# Altium schematic symbol library Memory_RAM.SchLib: 45 symbols
Pins are listed as number, name and electrical type; pins without a type are passive.

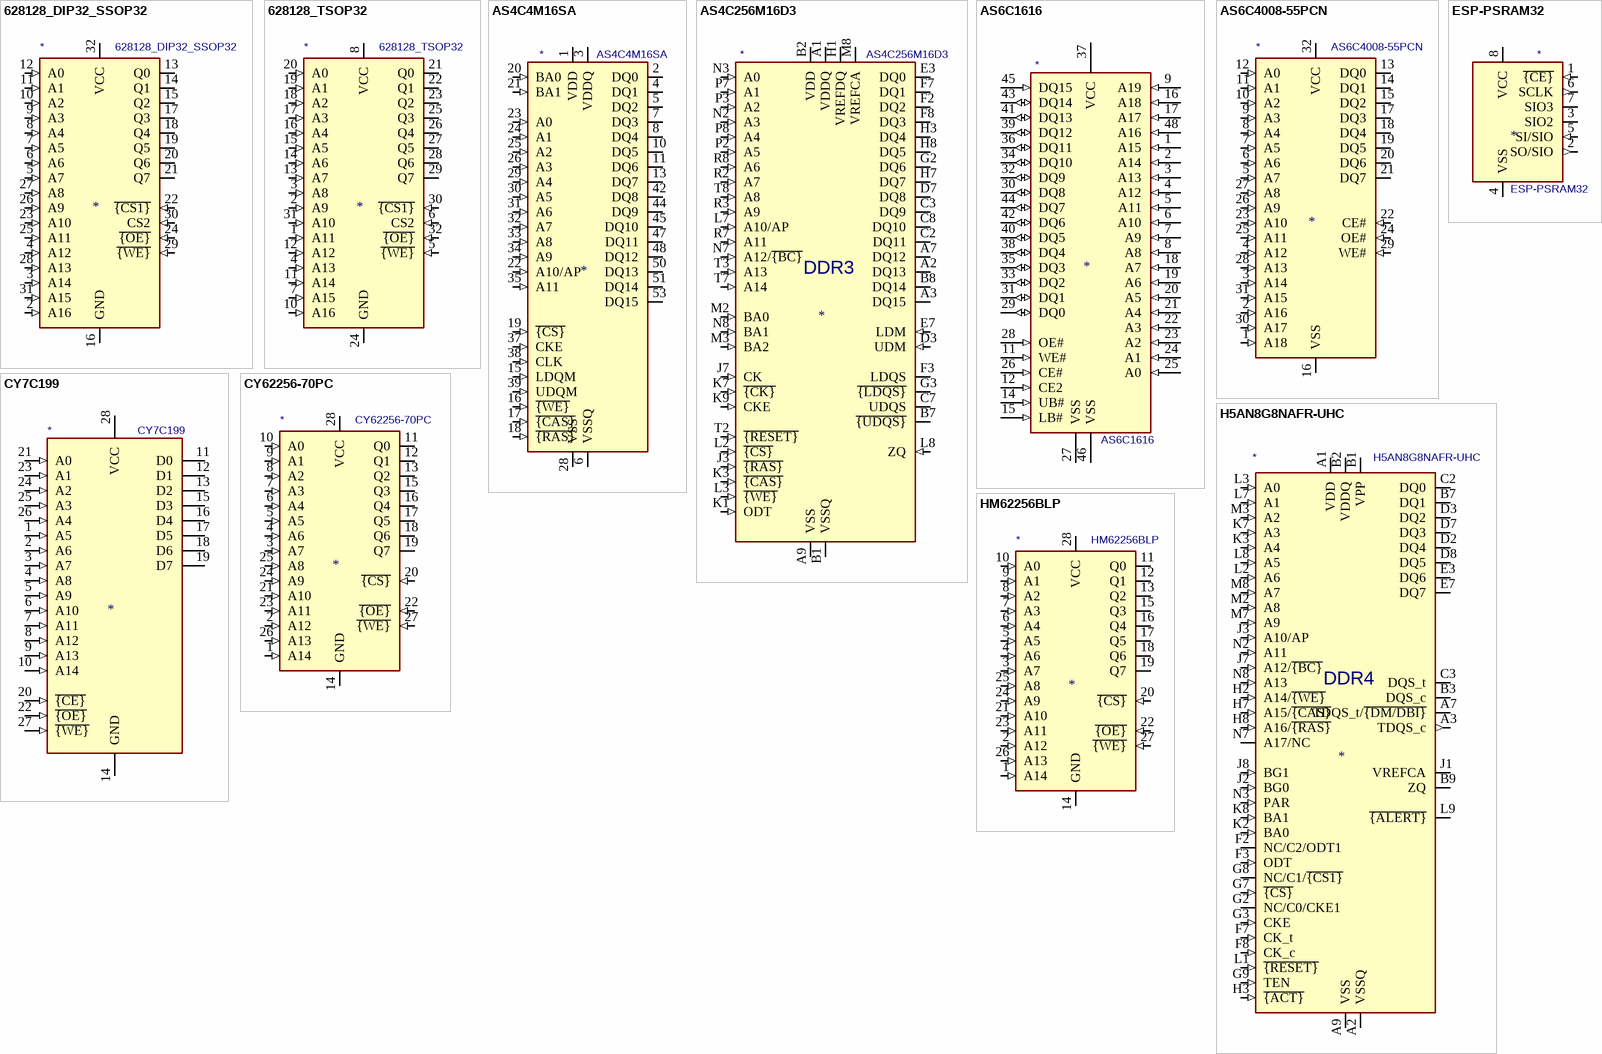
[diagram p0: symbols 628128_DIP32_SSOP32 to HM62256BLP]

## 628128_DIP32_SSOP32
designator *  value 628128_DIP32_SSOP32
ki_keywords: RAM SRAM CMOS MEMORY; ki_description: 128K x 8 High-Speed CMOS Static RAM, 55/70ns, DIP-32/SSOP-32; ki_fp_filters: DIP*W15.24mm* SSOP*11.305x20.495mm*P1.27mm*; Supplier: http://www.futurlec.com/Datasheet/Memory/628128.pdf
pins: 1 NC (in) hidden, 2 A16 (in), 3 A14 (in), 4 A12 (in), 5 A7 (in), 6 A6 (in), 7 A5 (in), 8 A4 (in), 9 A3 (in), 10 A2 (in), 11 A1 (in), 12 A0 (in), 13 Q0 (hiz), 14 Q1 (hiz), 15 Q2 (hiz), 16 GND (power), 17 Q3 (hiz), 18 Q4 (hiz), 19 Q5 (hiz), 20 Q6 (hiz), 21 Q7 (hiz), 22 ~{{CS1}} (in), 23 A10 (in), 24 ~{{OE}} (in), 25 A11 (in), 26 A9 (in), 27 A8 (in), 28 A13 (in), 29 ~{{WE}} (in), 30 CS2 (in), 31 A15 (in), 32 VCC (power)

## 628128_TSOP32
designator *  value 628128_TSOP32
ki_keywords: RAM SRAM CMOS MEMORY; ki_description: 128K x 8 High-Speed CMOS Static RAM, 55/70ns, TSOP-I-32; ki_fp_filters: TSOP?I*11.8x8mm*P0.5mm* TSOP?I*18.4x8mm*P0.5mm*; Supplier: http://www.futurlec.com/Datasheet/Memory/628128.pdf
pins: 1 A11 (in), 2 A9 (in), 3 A8 (in), 4 A13 (in), 5 ~{{WE}} (in), 6 CS2 (in), 7 A15 (in), 8 VCC (power), 9 NC (in) hidden, 10 A16 (in), 11 A14 (in), 12 A12 (in), 13 A7 (in), 14 A6 (in), 15 A5 (in), 16 A4 (in), 17 A3 (in), 18 A2 (in), 19 A1 (in), 20 A0 (in), 21 Q0 (hiz), 22 Q1 (hiz), 23 Q2 (hiz), 24 GND (power), 25 Q3 (hiz), 26 Q4 (hiz), 27 Q5 (hiz), 28 Q6 (hiz), 29 Q7 (hiz), 30 ~{{CS1}} (in), 31 A10 (in), 32 ~{{OE}} (in)

## AS4C4M16SA
designator *  value AS4C4M16SA
ki_keywords: SDRAM Synchronous DRAM PC166 PC143 64Mb 16Mbx4 MEMORY; ki_description: 64M – (4M x 16 bit) Synchronous DRAM (SDRAM), TSOP-II-54; ki_fp_filters: TSOP?II*22.2x10.16mm*P0.8mm*; Footprint: Package_SO:TSOP-II-54_22.2x10.16mm_P0.8mm; Supplier: https://www.alliancememory.com/wp-content/uploads/pdf/dram/64M-AS4C4M16SA-CI_v3.0_March%202015.pdf
footprint TSOP-II-54_22.2x10.16mm_P0.8mm
pins: 1 VDD (power), 2 DQ0 (io), 3 VDDQ (power), 4 DQ1 (io), 5 DQ2 (io), 6 VSSQ (power), 7 DQ3 (io), 8 DQ4 (io), 9 VDDQ hidden, 10 DQ5 (io), 11 DQ6 (io), 12 VSSQ hidden, 13 DQ7 (io), 14 VDD hidden, 15 LDQM (in), 16 ~{{WE}} (in), 17 ~{{CAS}} (in), 18 ~{{RAS}} (in), 19 ~{{CS}} (in), 20 BA0 (in), 21 BA1 (in), 22 A10/AP (in), 23 A0 (in), 24 A1 (in), 25 A2 (in), 26 A3 (in), 27 VDD hidden, 28 VSS (power), 29 A4 (in), 30 A5 (in), 31 A6 (in), 32 A7 (in), 33 A8 (in), 34 A9 (in), 35 A11 (in), 36 NC (in) hidden, 37 CKE (in), 38 CLK (in), 39 UDQM (in), 40 NC/RFU (in) hidden, 41 VSS hidden, 42 DQ8 (io), 43 VDDQ hidden, 44 DQ9 (io), 45 DQ10 (io), 46 VSSQ hidden, 47 DQ11 (io), 48 DQ12 (io), 49 VDDQ hidden, 50 DQ13 (io), 51 DQ14 (io), 52 VSSQ hidden, 53 DQ15 (io), 54 VSS hidden

## AS4C256M16D3
designator *  value AS4C256M16D3
ki_keywords: DDR3 DRAM MEMORY; ki_description: 4Gb (256Mx16 bit) Double Data Rate 3 Synchronous DRAM; ki_fp_filters: BGA*9.0x13.0mm*P0.8mm*; Footprint: Package_BGA:BGA-96_9.0x13.0mm_Layout2x3x16_P0.8mm; Supplier: https://www.alliancememory.com/wp-content/uploads/pdf/ddr3/4GB-AS4C256M16D3.pdf
footprint BGA-96_9.0x13.0mm_Layout2x3x16_P0.8mm
pins: A1 VDDQ (power), A2 DQ13 (io), A3 DQ15 (io), A7 DQ12 (io), A8 VDDQ hidden, A9 VSS (power), B1 VSSQ (power), B2 VDD (power), B3 VSS hidden, B7 ~{{UDQS}} (io), B8 DQ14 (io), B9 VSSQ hidden, C1 VDDQ hidden, C2 DQ11 (io), C3 DQ9 (io), C7 UDQS (io), C8 DQ10 (io), C9 VDDQ hidden, D1 VSSQ hidden, D2 VDDQ hidden, D3 UDM (in), D7 DQ8 (io), D8 VSSQ hidden, D9 VDD hidden, E1 VSS hidden, E2 VSSQ hidden, E3 DQ0 (io), E7 LDM (in), E8 VSSQ hidden, E9 VDDQ hidden, F1 VDDQ hidden, F2 DQ2 (io), F3 LDQS (io), F7 DQ1 (io), F8 DQ3 (io), F9 VSSQ hidden, G1 VSSQ hidden, G2 DQ6 (io), G3 ~{{LDQS}} (io), G7 VDD hidden, G8 VSS hidden, G9 VSSQ hidden, H1 VREFDQ (power), H2 VDDQ hidden, H3 DQ4 (io), H7 DQ7 (io), H8 DQ5 (io), H9 VDDQ hidden, J1 NC (in) hidden, J2 VSS hidden, J3 ~{{RAS}} (in), J7 CK (in), J8 VSS hidden, J9 NC (in) hidden, K1 ODT (in), K2 VDD hidden, K3 ~{{CAS}} (in), K7 ~{{CK}} (in), K8 VDD hidden, K9 CKE (in), L1 NC (in) hidden, L2 ~{{CS}} (in), L3 ~{{WE}} (in), L7 A10/AP (in), L8 ZQ (in), L9 NC (in) hidden, M1 VSS hidden, M2 BA0 (in), M3 BA2 (in), M7 NC (in) hidden, M8 VREFCA (power), M9 VSS hidden, N1 VDD hidden, N2 A3 (in), N3 A0 (in), N7 A12/~{{BC}} (in), N8 BA1 (in), N9 VDD hidden, P1 VSS hidden, P2 A5 (in), P3 A2 (in), P7 A1 (in), P8 A4 (in), P9 VSS hidden, R1 VDD hidden, R2 A7 (in), R3 A9 (in), R7 A11 (in), R8 A6 (in), R9 VDD hidden, T1 VSS hidden, T2 ~{{RESET}} (in), T3 A13 (in), T7 A14 (in), T8 A8 (in), T9 VSS hidden
text: DDR3

## AS6C1616
designator *  value AS6C1616
ki_keywords: memory SRAM; ki_description: 1024k x 16 bit low power CMOS SRAM; ki_fp_filters: TSOP?I*18.4x12mm*P0.5mm*; Footprint: Package_SO:TSOP-I-48_18.4x12mm_P0.5mm; Supplier: https://www.alliancememory.com/wp-content/uploads/pdf/AS6C1616-TSOPI.pdf
footprint TSOP-I-48_18.4x12mm_P0.5mm
pins: 1 A15 (in), 2 A14 (in), 3 A13 (in), 4 A12 (in), 5 A11 (in), 6 A10 (in), 7 A9 (in), 8 A8 (in), 9 A19 (in), 10 NC (in) hidden, 11 WE# (in), 12 CE2 (in), 13 NC (in) hidden, 14 UB# (in), 15 LB# (in), 16 A18 (in), 17 A17 (in), 18 A7 (in), 19 A6 (in), 20 A5 (in), 21 A4 (in), 22 A3 (in), 23 A2 (in), 24 A1 (in), 25 A0 (in), 26 CE# (in), 27 VSS (power), 28 OE# (in), 29 DQ0 (io), 30 DQ8 (io), 31 DQ1 (io), 32 DQ9 (io), 33 DQ2 (io), 34 DQ10 (io), 35 DQ3 (io), 36 DQ11 (io), 37 VCC (power), 38 DQ4 (io), 39 DQ12 (io), 40 DQ5 (io), 41 DQ13 (io), 42 DQ6 (io), 43 DQ14 (io), 44 DQ7 (io), 45 DQ15 (in), 46 VSS (power), 47 NC (in) hidden, 48 A16 (in)

## AS6C4008-55PCN
designator *  value AS6C4008-55PCN
ki_keywords: RAM SRAM CMOS MEMORY; ki_description: 512K x 8 Low Power CMOS RAM, DIP-32; ki_fp_filters: DIP*W15.24mm*; Footprint: Package_DIP:DIP-32_W15.24mm; Supplier: https://www.alliancememory.com/wp-content/uploads/pdf/AS6C4008.pdf
footprint DIP-32_W15.24mm
pins: 1 A18 (in), 2 A16 (in), 3 A14 (in), 4 A12 (in), 5 A7 (in), 6 A6 (in), 7 A5 (in), 8 A4 (in), 9 A3 (in), 10 A2 (in), 11 A1 (in), 12 A0 (in), 13 DQ0 (hiz), 14 DQ1 (hiz), 15 DQ2 (hiz), 16 VSS (power), 17 DQ3 (hiz), 18 DQ4 (hiz), 19 DQ5 (hiz), 20 DQ6 (hiz), 21 DQ7 (hiz), 22 CE# (in), 23 A10 (in), 24 OE# (in), 25 A11 (in), 26 A9 (in), 27 A8 (in), 28 A13 (in), 29 WE# (in), 30 A17 (in), 31 A15 (in), 32 VCC (power)

## CY7C199
designator *  value CY7C199
pins: 1 A5 (in), 2 A6 (in), 3 A7 (in), 4 A8 (in), 5 A9 (in), 6 A10 (in), 7 A11 (in), 8 A12 (in), 9 A13 (in), 10 A14 (in), 11 D0 (hiz), 12 D1 (hiz), 13 D2 (hiz), 14 GND (power), 15 D3 (hiz), 16 D4 (hiz), 17 D5 (hiz), 18 D6 (hiz), 19 D7 (hiz), 20 ~{{CE}} (in), 21 A0 (in), 22 ~{{OE}} (in), 23 A1 (in), 24 A2 (in), 25 A3 (in), 26 A4 (in), 27 ~{{WE}} (in), 28 VCC (power)

## CY62256-70PC
designator *  value CY62256-70PC
ki_keywords: RAM SRAM CMOS MEMORY; ki_description: 256K (32K x 8) Static RAM, 70ns, DIP-28; ki_fp_filters: DIP*W15.24mm*; Footprint: Package_DIP:DIP-28_W15.24mm; Supplier: https://ecee.colorado.edu/~mcclurel/Cypress_SRAM_CY62256.pdf
footprint DIP-28_W15.24mm
pins: 1 A14 (in), 2 A12 (in), 3 A7 (in), 4 A6 (in), 5 A5 (in), 6 A4 (in), 7 A3 (in), 8 A2 (in), 9 A1 (in), 10 A0 (in), 11 Q0 (hiz), 12 Q1 (hiz), 13 Q2 (hiz), 14 GND (power), 15 Q3 (hiz), 16 Q4 (hiz), 17 Q5 (hiz), 18 Q6 (hiz), 19 Q7 (hiz), 20 ~{{CS}} (in), 21 A10 (in), 22 ~{{OE}} (in), 23 A11 (in), 24 A9 (in), 25 A8 (in), 26 A13 (in), 27 ~{{WE}} (in), 28 VCC (power)

## ESP-PSRAM32
designator *  value ESP-PSRAM32
ki_keywords: 32 Mbit serial pseudo SRAM MEMORY; ki_description: 32 Mbit serial pseudo SRAM device organized as 4Mx8 bits, 1.8 VCC, SOIC8 (SOP8); ki_fp_filters: SOIC*3.9x4.9mm?P1.27mm*; Footprint: Package_SO:SOIC-8_3.9x4.9mm_P1.27mm; Supplier: https://www.espressif.com/sites/default/files/documentation/esp-psram32_datasheet_en.pdf
footprint SOIC-8_3.9x4.9mm_P1.27mm
pins: 1 ~{{CE}} (in), 2 SO/SIO (out), 3 SIO2 (io), 4 VSS (power), 5 SI/SIO (in), 6 SCLK (out), 7 SIO3 (io), 8 VCC (power)

## H5AN8G8NAFR-UHC
designator *  value H5AN8G8NAFR-UHC
ki_keywords: DDR4 DRAM MEMORY; ki_description: 8Gb CMOS Double Data Rate IV Synchronous RAM; ki_fp_filters: FBGA*7.5x11mm*P0.8mm*; Footprint: Package_BGA:FBGA-78_7.5x11mm_Layout2x3x13_P0.8mm; Supplier: https://www.skhynix.com/product/filedata/fileDownload.do?seq=7687
footprint FBGA-78_7.5x11mm_Layout2x3x13_P0.8mm
pins: A1 VDD (power), A2 VSSQ (power), A3 TDQS_c (out), A7 TDQS_t/~{{DM/DBI}} (io), A8 VSSQ hidden, A9 VSS (power), B1 VPP (power), B2 VDDQ (power), B3 DQS_c (io), B7 DQ1 (io), B8 VDDQ hidden, B9 ZQ, C1 VDDQ hidden, C2 DQ0 (io), C3 DQS_t (io), C7 VDD hidden, C8 VSS hidden, C9 VDDQ hidden, D1 VSSQ hidden, D2 DQ4 (io), D3 DQ2 (io), D7 DQ3 (io), D8 DQ5 (io), D9 VSSQ hidden, E1 VSS hidden, E2 VDDQ hidden, E3 DQ6 (io), E7 DQ7 (io), E8 VDDQ hidden, E9 VSS hidden, F1 VDD hidden, F2 NC/C2/ODT1, F3 ODT (in), F7 CK_t (in), F8 CK_c (in), F9 VDD hidden, G1 VSS hidden, G2 NC/C0/CKE1, G3 CKE (in), G7 ~{{CS}} (in), G8 NC/C1/~{{CS1}}, G9 TEN (in), H1 VDD hidden, H2 A14/~{{WE}} (in), H3 ~{{ACT}} (in), H7 A15/~{{CAS}} (in), H8 A16/~{{RAS}} (in), H9 VSS hidden, J1 VREFCA, J2 BG0 (in), J3 A10/AP (in), J7 A12/~{{BC}} (in), J8 BG1 (in), J9 VDD hidden, K1 VSS hidden, K2 BA0 (in), K3 A4 (in), K7 A3 (in), K8 BA1 (in), K9 VSS hidden, L1 ~{{RESET}} (in), L2 A6 (in), L3 A0 (in), L7 A1 (in), L8 A5 (in), L9 ~{{ALERT}} (oc), M1 VDD hidden, M2 A8 (in), M3 A2 (in), M7 A9 (in), M8 A7 (in), M9 VPP hidden, N1 VSS hidden, N2 A11 (in), N3 PAR (in), N7 A17/NC, N8 A13 (in), N9 VDD hidden
text: DDR4

## HM62256BLP
designator *  value HM62256BLP
ki_keywords: RAM SRAM CMOS MEMORY; ki_description: 32,768-word × 8-bit High Speed CMOS Static RAM, 70ns, DIP-28; ki_fp_filters: DIP*W15.24mm*; Footprint: Package_DIP:DIP-28_W15.24mm; Supplier: https://web.mit.edu/6.115/www/document/62256.pdf
footprint DIP-28_W15.24mm
pins: 1 A14 (in), 2 A12 (in), 3 A7 (in), 4 A6 (in), 5 A5 (in), 6 A4 (in), 7 A3 (in), 8 A2 (in), 9 A1 (in), 10 A0 (in), 11 Q0 (hiz), 12 Q1 (hiz), 13 Q2 (hiz), 14 GND (power), 15 Q3 (hiz), 16 Q4 (hiz), 17 Q5 (hiz), 18 Q6 (hiz), 19 Q7 (hiz), 20 ~{{CS}} (in), 21 A10 (in), 22 ~{{OE}} (in), 23 A11 (in), 24 A9 (in), 25 A8 (in), 26 A13 (in), 27 ~{{WE}} (in), 28 VCC (power)

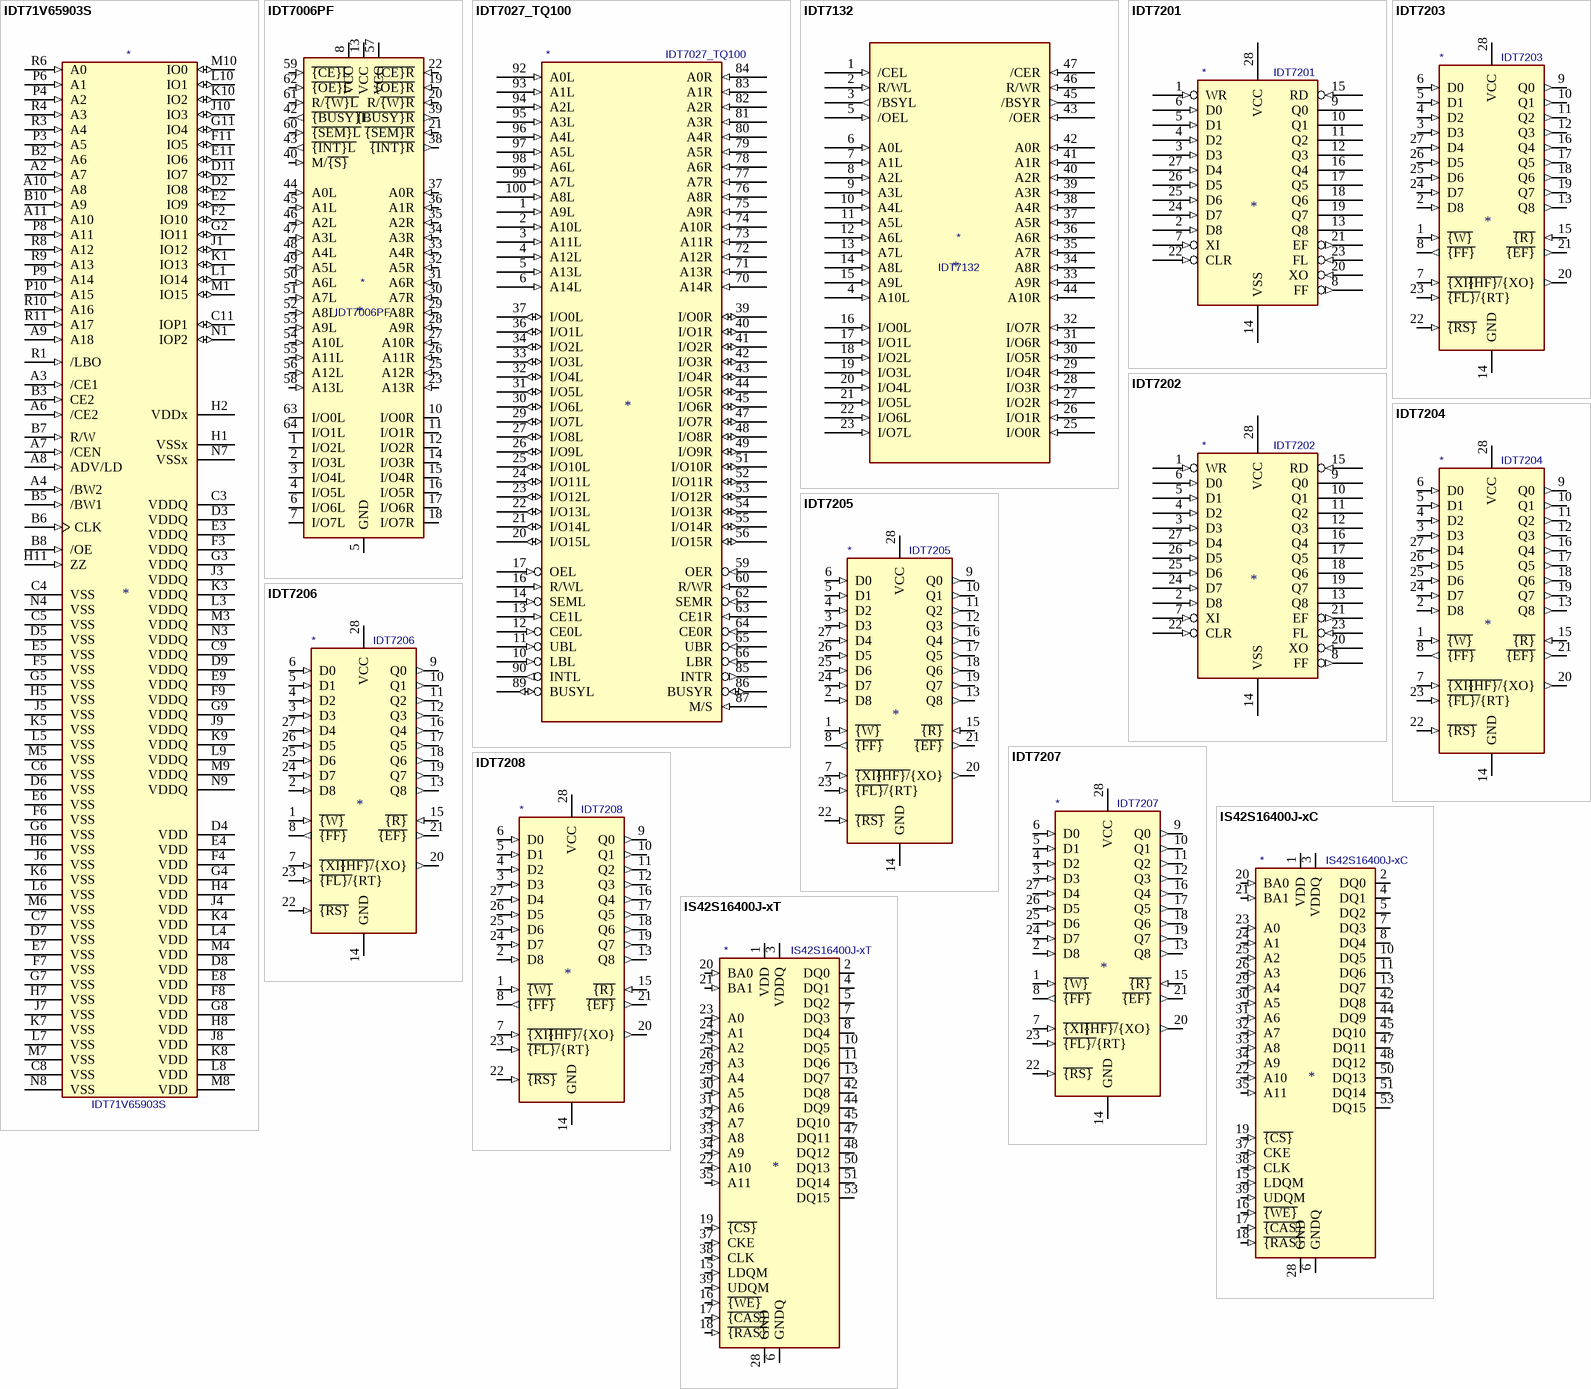
[diagram p1: symbols IDT71V65903S to IS42S16400J-xT]

## IDT71V65903S
designator *  value IDT71V65903S
ki_description: 165 pins BGA 3.3V high-speed 9 Megabit synchronous SRAMs 512K x 18 (or  256K x 36)
pins: A2 A7 (in), A3 /CE1 (in), A4 /BW2 (in), A6 /CE2 (in), A7 /CEN (in), A8 ADV/LD (in), A9 A18 (in), A10 A8 (in), A11 A10 (in), B2 A6 (in), B3 CE2 (in), B5 /BW1 (in), B6 CLK (in), B7 R/W (in), B8 /OE (in), B10 A9 (in), C3 VDDQ (power), C4 VSS, C5 VSS, C6 VSS, C7 VSS, C8 VSS, C9 VDDQ, C11 IOP1 (io), D2 IO8 (io), D3 VDDQ, D4 VDD, D5 VSS, D6 VSS, D7 VSS, D8 VDD, D9 VDDQ, D11 IO7 (io), E2 IO9 (io), E3 VDDQ, E4 VDD, E5 VSS, E6 VSS, E7 VSS, E8 VDD, E9 VDDQ, E11 IO6 (io), F2 IO10 (io), F3 VDDQ, F4 VDD, F5 VSS, F6 VSS, F7 VSS, F8 VDD, F9 VDDQ, F11 IO5 (io), G2 IO11 (io), G3 VDDQ, G4 VDD, G5 VSS, G6 VSS, G7 VSS, G8 VDD, G9 VDDQ, G11 IO4 (io), H1 VSSx, H2 VDDx, H4 VDD, H5 VSS, H6 VSS, H7 VSS, H8 VDD, H11 ZZ (in), J1 IO12 (io), J3 VDDQ, J4 VDD, J5 VSS, J6 VSS, J7 VSS, J8 VDD, J9 VDDQ, J10 IO3 (io), K1 IO13 (io), K3 VDDQ, K4 VDD, K5 VSS, K6 VSS, K7 VSS, K8 VDD, K9 VDDQ, K10 IO2 (io), L1 IO14 (io), L3 VDDQ, L4 VDD, L5 VSS, L6 VSS, L7 VSS, L8 VDD, L9 VDDQ, L10 IO1 (io), M1 IO15 (io), M3 VDDQ, M4 VDD, M5 VSS, M6 VSS, M7 VSS, M8 VDD, M9 VDDQ, M10 IO0 (io), N1 IOP2 (io), N3 VDDQ, N4 VSS, N7 VSSx, N8 VSS, N9 VDDQ (power), P3 A5 (in), P4 A2 (in), P6 A1 (in), P8 A11 (in), P9 A14 (in), P10 A15 (in), R1 /LBO (in), R3 A4 (in), R4 A3 (in), R6 A0 (in), R8 A12 (in), R9 A13 (in), R10 A16 (in), R11 A17 (in)

## IDT7006PF
designator *  value IDT7006PF
ki_keywords: dual-port ram; ki_description: 16K x 8 Dual-Port SRAM, TQFP-64; ki_fp_filters: TQFP*14x14mm*P0.8mm*; Footprint: Package_QFP:TQFP-64_14x14mm_P0.8mm; Supplier: https://www.idt.com/document/dst/7006-data-sheet
footprint TQFP-64_14x14mm_P0.8mm
pins: 1 I/O2L (io), 2 I/O3L (io), 3 I/O4L (io), 4 I/O5L (io), 5 GND (power), 6 I/O6L (io), 7 I/O7L (io), 8 VCC (power), 9 GND hidden, 10 I/O0R (io), 11 I/O1R (io), 12 I/O2R (io), 13 VCC (power), 14 I/O3R (io), 15 I/O4R (io), 16 I/O5R (io), 17 I/O6R (io), 18 I/O7R (io), 19 ~{{OE}R} (in), 20 R/~{{W}R} (in), 21 ~{{SEM}R} (in), 22 ~{{CE}R} (in), 23 A13R (in), 24 GND hidden, 25 A12R (in), 26 A11R (in), 27 A10R (in), 28 A9R (in), 29 A8R (in), 30 A7R (in), 31 A6R (in), 32 A5R (in), 33 A4R (in), 34 A3R (in), 35 A2R (in), 36 A1R (in), 37 A0R (in), 38 ~{{INT}R} (out), 39 ~{{BUSY}R} (out), 40 M/~{{S}} (in), 41 GND hidden, 42 ~{{BUSY}L} (out), 43 ~{{INT}L} (out), 44 A0L (in), 45 A1L (in), 46 A2L (in), 47 A3L (in), 48 A4L (in), 49 A5L (in), 50 A6L (in), 51 A7L (in), 52 A8L (in), 53 A9L (in), 54 A10L (in), 55 A11L (in), 56 A12L (in), 57 VCC (power), 58 A13L (in), 59 ~{{CE}L} (in), 60 ~{{SEM}L} (in), 61 R/~{{W}L} (in), 62 ~{{OE}L} (in), 63 I/O0L (io), 64 I/O1L (io)

## IDT7027_TQ100
designator *  value IDT7027_TQ100
pins: 1 A9L (in), 2 A10L (in), 3 A11L (in), 4 A12L (in), 5 A13L (in), 6 A14L (in), 10 LBL (in), 11 UBL (in), 12 CE0L (in), 13 CE1L (in), 14 SEML (in), 15 VCC (power) hidden, 16 R/WL (in), 17 OEL (in), 18 GND (power) hidden, 19 GND (power) hidden, 20 I/O15L (io), 21 I/O14L (io), 22 I/O13L (io), 23 I/O12L (io), 24 I/O11L (io), 25 I/O10L (io), 26 I/O9L (io), 27 I/O8L (io), 28 VCC (power) hidden, 29 I/O7L (io), 30 I/O6L (io), 31 I/O5L (io), 32 I/O4L (io), 33 I/O3L (io), 34 I/O2L (io), 35 GND (power) hidden, 36 I/O1L (io), 37 I/O0L (io), 38 GND (power) hidden, 39 I/O0R (io), 40 I/O1R (io), 41 I/O2R (io), 42 I/O3R (io), 43 I/O4R (io), 44 I/O5R (io), 45 I/O6R (io), 46 VCC (power) hidden, 47 I/O7R (io), 48 I/O8R (io), 49 I/O9R (io), 51 I/O10R (io), 52 I/O11R (io), 53 I/O12R (io), 54 I/O13R (io), 55 I/O14R (io), 56 I/O15R (io), 57 GND (power) hidden, 58 GND (power) hidden, 59 OER (in), 60 R/WR (in), 61 GND (power) hidden, 62 SEMR (in), 63 CE1R (in), 64 CE0R (in), 65 UBR (in), 66 LBR (in), 70 A14R (in), 71 A13R (in), 72 A12R (in), 73 A11R (in), 74 A10R (in), 75 A9R (in), 76 A8R (in), 77 A7R (in), 78 A6R (in), 79 A5R (in), 80 A4R (in), 81 A3R (in), 82 A2R (in), 83 A1R (in), 84 A0R (in), 85 INTR (out), 86 BUSYR (io), 87 M/S (in), 88 GND (power) hidden, 89 BUSYL (io), 90 INTL (out), 92 A0L (in), 93 A1L (in), 94 A2L (in), 95 A3L (in), 96 A4L (in), 97 A5L (in), 98 A6L (in), 99 A7L (in), 100 A8L (in)

## IDT7132
designator *  value IDT7132
pins: 1 /CEL (in), 2 R/WL (in), 3 /BSYL (out), 4 A10L (in), 5 /OEL (in), 6 A0L (in), 7 A1L (in), 8 A2L (in), 9 A3L (in), 10 A4L (in), 11 A5L (in), 12 A6L (in), 13 A7L (in), 14 A8L (in), 15 A9L (in), 16 I/O0L (in), 17 I/O1L (in), 18 I/O2L (in), 19 I/O3L (in), 20 I/O4L (in), 21 I/O5L (in), 22 I/O6L (in), 23 I/O7L (in), 24 GND (power) hidden, 25 I/O0R (in), 26 I/O1R (in), 27 I/O2R (in), 28 I/O3R (in), 29 I/O4R (in), 30 I/O5R (in), 31 I/O6R (in), 32 I/O7R (in), 33 A9R (in), 34 A8R (in), 35 A7R (in), 36 A6R (in), 37 A5R (in), 38 A4R (in), 39 A3R (in), 40 A2R (in), 41 A1R (in), 42 A0R (in), 43 /OER (in), 44 A10R (in), 45 /BSYR (out), 46 R/WR (in), 47 /CER (in), 48 VCC (power) hidden

## IDT7201
designator *  value IDT7201
pins: 1 WR (in), 2 D8 (in), 3 D3 (in), 4 D2 (in), 5 D1 (in), 6 D0 (in), 7 XI (in), 8 FF (out), 9 Q0 (hiz), 10 Q1 (hiz), 11 Q2 (hiz), 12 Q3 (hiz), 13 Q8 (hiz), 14 VSS (power), 15 RD (in), 16 Q4 (hiz), 17 Q5 (hiz), 18 Q6 (hiz), 19 Q7 (hiz), 20 XO (in), 21 EF (out), 22 CLR (in), 23 FL (in), 24 D7 (in), 25 D6 (in), 26 D5 (in), 27 D4 (in), 28 VCC (power)

## IDT7202
designator *  value IDT7202
pins: 1 WR (in), 2 D8 (in), 3 D3 (in), 4 D2 (in), 5 D1 (in), 6 D0 (in), 7 XI (in), 8 FF (out), 9 Q0 (hiz), 10 Q1 (hiz), 11 Q2 (hiz), 12 Q3 (hiz), 13 Q8 (hiz), 14 VSS (power), 15 RD (in), 16 Q4 (hiz), 17 Q5 (hiz), 18 Q6 (hiz), 19 Q7 (hiz), 20 XO (in), 21 EF (out), 22 CLR (in), 23 FL (in), 24 D7 (in), 25 D6 (in), 26 D5 (in), 27 D4 (in), 28 VCC (power)

## IDT7203
designator *  value IDT7203
ki_keywords: asynchronous fifo memory; ki_description: 2048x9 CMOS Asynchronous FIFO, DIP-28; ki_fp_filters: DIP*7.62mm*; Footprint: Package_DIP:DIP-28_W7.62mm; Supplier: http://www.idt.com/document/7203-7208-datasheet
footprint DIP-28_W7.62mm
pins: 1 ~{{W}} (in), 2 D8 (in), 3 D3 (in), 4 D2 (in), 5 D1 (in), 6 D0 (in), 7 ~{{XI}} (in), 8 ~{{FF}} (out), 9 Q0 (out), 10 Q1 (out), 11 Q2 (out), 12 Q3 (out), 13 Q8 (out), 14 GND (power), 15 ~{{R}} (in), 16 Q4 (out), 17 Q5 (out), 18 Q6 (out), 19 Q7 (out), 20 ~{{HF}/}{XO} (out), 21 ~{{EF}} (out), 22 ~{{RS}} (in), 23 ~{{FL}/}{RT} (in), 24 D7 (in), 25 D6 (in), 26 D5 (in), 27 D4 (in), 28 VCC (power)

## IDT7204
designator *  value IDT7204
ki_keywords: asynchronous fifo memory; ki_description: 4096x9 CMOS Asynchronous FIFO, DIP-28; ki_fp_filters: DIP*7.62mm*; Footprint: Package_DIP:DIP-28_W7.62mm; Supplier: http://www.idt.com/document/7203-7208-datasheet
footprint DIP-28_W7.62mm
pins: 1 ~{{W}} (in), 2 D8 (in), 3 D3 (in), 4 D2 (in), 5 D1 (in), 6 D0 (in), 7 ~{{XI}} (in), 8 ~{{FF}} (out), 9 Q0 (out), 10 Q1 (out), 11 Q2 (out), 12 Q3 (out), 13 Q8 (out), 14 GND (power), 15 ~{{R}} (in), 16 Q4 (out), 17 Q5 (out), 18 Q6 (out), 19 Q7 (out), 20 ~{{HF}/}{XO} (out), 21 ~{{EF}} (out), 22 ~{{RS}} (in), 23 ~{{FL}/}{RT} (in), 24 D7 (in), 25 D6 (in), 26 D5 (in), 27 D4 (in), 28 VCC (power)

## IDT7205
designator *  value IDT7205
ki_keywords: asynchronous fifo memory; ki_description: 8192x9 CMOS Asynchronous FIFO, DIP-28; ki_fp_filters: DIP*7.62mm*; Footprint: Package_DIP:DIP-28_W7.62mm; Supplier: http://www.idt.com/document/7203-7208-datasheet
footprint DIP-28_W7.62mm
pins: 1 ~{{W}} (in), 2 D8 (in), 3 D3 (in), 4 D2 (in), 5 D1 (in), 6 D0 (in), 7 ~{{XI}} (in), 8 ~{{FF}} (out), 9 Q0 (out), 10 Q1 (out), 11 Q2 (out), 12 Q3 (out), 13 Q8 (out), 14 GND (power), 15 ~{{R}} (in), 16 Q4 (out), 17 Q5 (out), 18 Q6 (out), 19 Q7 (out), 20 ~{{HF}/}{XO} (out), 21 ~{{EF}} (out), 22 ~{{RS}} (in), 23 ~{{FL}/}{RT} (in), 24 D7 (in), 25 D6 (in), 26 D5 (in), 27 D4 (in), 28 VCC (power)

## IDT7206
designator *  value IDT7206
ki_keywords: asynchronous fifo memory; ki_description: 16384x9 CMOS Asynchronous FIFO, DIP-28; ki_fp_filters: DIP*7.62mm*; Footprint: Package_DIP:DIP-28_W7.62mm; Supplier: http://www.idt.com/document/7203-7208-datasheet
footprint DIP-28_W7.62mm
pins: 1 ~{{W}} (in), 2 D8 (in), 3 D3 (in), 4 D2 (in), 5 D1 (in), 6 D0 (in), 7 ~{{XI}} (in), 8 ~{{FF}} (out), 9 Q0 (out), 10 Q1 (out), 11 Q2 (out), 12 Q3 (out), 13 Q8 (out), 14 GND (power), 15 ~{{R}} (in), 16 Q4 (out), 17 Q5 (out), 18 Q6 (out), 19 Q7 (out), 20 ~{{HF}/}{XO} (out), 21 ~{{EF}} (out), 22 ~{{RS}} (in), 23 ~{{FL}/}{RT} (in), 24 D7 (in), 25 D6 (in), 26 D5 (in), 27 D4 (in), 28 VCC (power)

## IDT7207
designator *  value IDT7207
ki_keywords: asynchronous fifo memory; ki_description: 32768x9 CMOS Asynchronous FIFO, DIP-28; ki_fp_filters: DIP*7.62mm*; Footprint: Package_DIP:DIP-28_W7.62mm; Supplier: http://www.idt.com/document/7203-7208-datasheet
footprint DIP-28_W7.62mm
pins: 1 ~{{W}} (in), 2 D8 (in), 3 D3 (in), 4 D2 (in), 5 D1 (in), 6 D0 (in), 7 ~{{XI}} (in), 8 ~{{FF}} (out), 9 Q0 (out), 10 Q1 (out), 11 Q2 (out), 12 Q3 (out), 13 Q8 (out), 14 GND (power), 15 ~{{R}} (in), 16 Q4 (out), 17 Q5 (out), 18 Q6 (out), 19 Q7 (out), 20 ~{{HF}/}{XO} (out), 21 ~{{EF}} (out), 22 ~{{RS}} (in), 23 ~{{FL}/}{RT} (in), 24 D7 (in), 25 D6 (in), 26 D5 (in), 27 D4 (in), 28 VCC (power)

## IDT7208
designator *  value IDT7208
ki_keywords: asynchronous fifo memory; ki_description: 65536x9 CMOS Asynchronous FIFO, DIP-28; ki_fp_filters: DIP*7.62mm*; Footprint: Package_DIP:DIP-28_W7.62mm; Supplier: http://www.idt.com/document/7203-7208-datasheet
footprint DIP-28_W7.62mm
pins: 1 ~{{W}} (in), 2 D8 (in), 3 D3 (in), 4 D2 (in), 5 D1 (in), 6 D0 (in), 7 ~{{XI}} (in), 8 ~{{FF}} (out), 9 Q0 (out), 10 Q1 (out), 11 Q2 (out), 12 Q3 (out), 13 Q8 (out), 14 GND (power), 15 ~{{R}} (in), 16 Q4 (out), 17 Q5 (out), 18 Q6 (out), 19 Q7 (out), 20 ~{{HF}/}{XO} (out), 21 ~{{EF}} (out), 22 ~{{RS}} (in), 23 ~{{FL}/}{RT} (in), 24 D7 (in), 25 D6 (in), 26 D5 (in), 27 D4 (in), 28 VCC (power)

## IS42S16400J-xC
designator *  value IS42S16400J-xC
ki_keywords: DRAM MEMORY; ki_description: 64Mb Synchronous DRAM, 1 Mb x 16 b x 4 Banks, Cu leadframe plated with matte Sn, TSOP-II-54; ki_fp_filters: TSOP?II*22.2x10.16mm*P0.8mm*; Footprint: Package_SO:TSOP-II-54_22.2x10.16mm_P0.8mm; Supplier: http://www.issi.com/WW/pdf/42-45S16400J.pdf
footprint TSOP-II-54_22.2x10.16mm_P0.8mm
pins: 1 VDD (power), 2 DQ0 (io), 3 VDDQ (power), 4 DQ1 (io), 5 DQ2 (io), 6 GNDQ (power), 7 DQ3 (io), 8 DQ4 (io), 9 VDDQ hidden, 10 DQ5 (io), 11 DQ6 (io), 12 GNDQ hidden, 13 DQ7 (io), 14 VDD hidden, 15 LDQM (in), 16 ~{{WE}} (in), 17 ~{{CAS}} (in), 18 ~{{RAS}} (in), 19 ~{{CS}} (in), 20 BA0 (in), 21 BA1 (in), 22 A10 (in), 23 A0 (in), 24 A1 (in), 25 A2 (in), 26 A3 (in), 27 VDD hidden, 28 GND (power), 29 A4 (in), 30 A5 (in), 31 A6 (in), 32 A7 (in), 33 A8 (in), 34 A9 (in), 35 A11 (in), 36 NC (in) hidden, 37 CKE (in), 38 CLK (in), 39 UDQM (in), 40 NC (in) hidden, 41 GND hidden, 42 DQ8 (io), 43 VDDQ hidden, 44 DQ9 (io), 45 DQ10 (io), 46 GNDQ hidden, 47 DQ11 (io), 48 DQ12 (io), 49 VDDQ hidden, 50 DQ13 (io), 51 DQ14 (io), 52 GNDQ hidden, 53 DQ15 (io), 54 GND hidden

## IS42S16400J-xT
designator *  value IS42S16400J-xT
ki_keywords: DRAM MEMORY; ki_description: 64Mb Synchronous DRAM, 1 Mb x 16 b x 4 Banks, Alloy42 leadframe plated with matte Sn, TSOP-II-54; ki_fp_filters: TSOP?II*22.2x10.16mm*P0.8mm*; Footprint: Package_SO:TSOP-II-54_22.2x10.16mm_P0.8mm; Supplier: http://www.issi.com/WW/pdf/42-45S16400J.pdf
footprint TSOP-II-54_22.2x10.16mm_P0.8mm
pins: 1 VDD (power), 2 DQ0 (io), 3 VDDQ (power), 4 DQ1 (io), 5 DQ2 (io), 6 GNDQ (power), 7 DQ3 (io), 8 DQ4 (io), 9 VDDQ hidden, 10 DQ5 (io), 11 DQ6 (io), 12 GNDQ hidden, 13 DQ7 (io), 14 VDD hidden, 15 LDQM (in), 16 ~{{WE}} (in), 17 ~{{CAS}} (in), 18 ~{{RAS}} (in), 19 ~{{CS}} (in), 20 BA0 (in), 21 BA1 (in), 22 A10 (in), 23 A0 (in), 24 A1 (in), 25 A2 (in), 26 A3 (in), 27 VDD hidden, 28 GND (power), 29 A4 (in), 30 A5 (in), 31 A6 (in), 32 A7 (in), 33 A8 (in), 34 A9 (in), 35 A11 (in), 36 NC (in) hidden, 37 CKE (in), 38 CLK (in), 39 UDQM (in), 40 NC (in) hidden, 41 GND hidden, 42 DQ8 (io), 43 VDDQ hidden, 44 DQ9 (io), 45 DQ10 (io), 46 GNDQ hidden, 47 DQ11 (io), 48 DQ12 (io), 49 VDDQ hidden, 50 DQ13 (io), 51 DQ14 (io), 52 GNDQ hidden, 53 DQ15 (io), 54 GND hidden

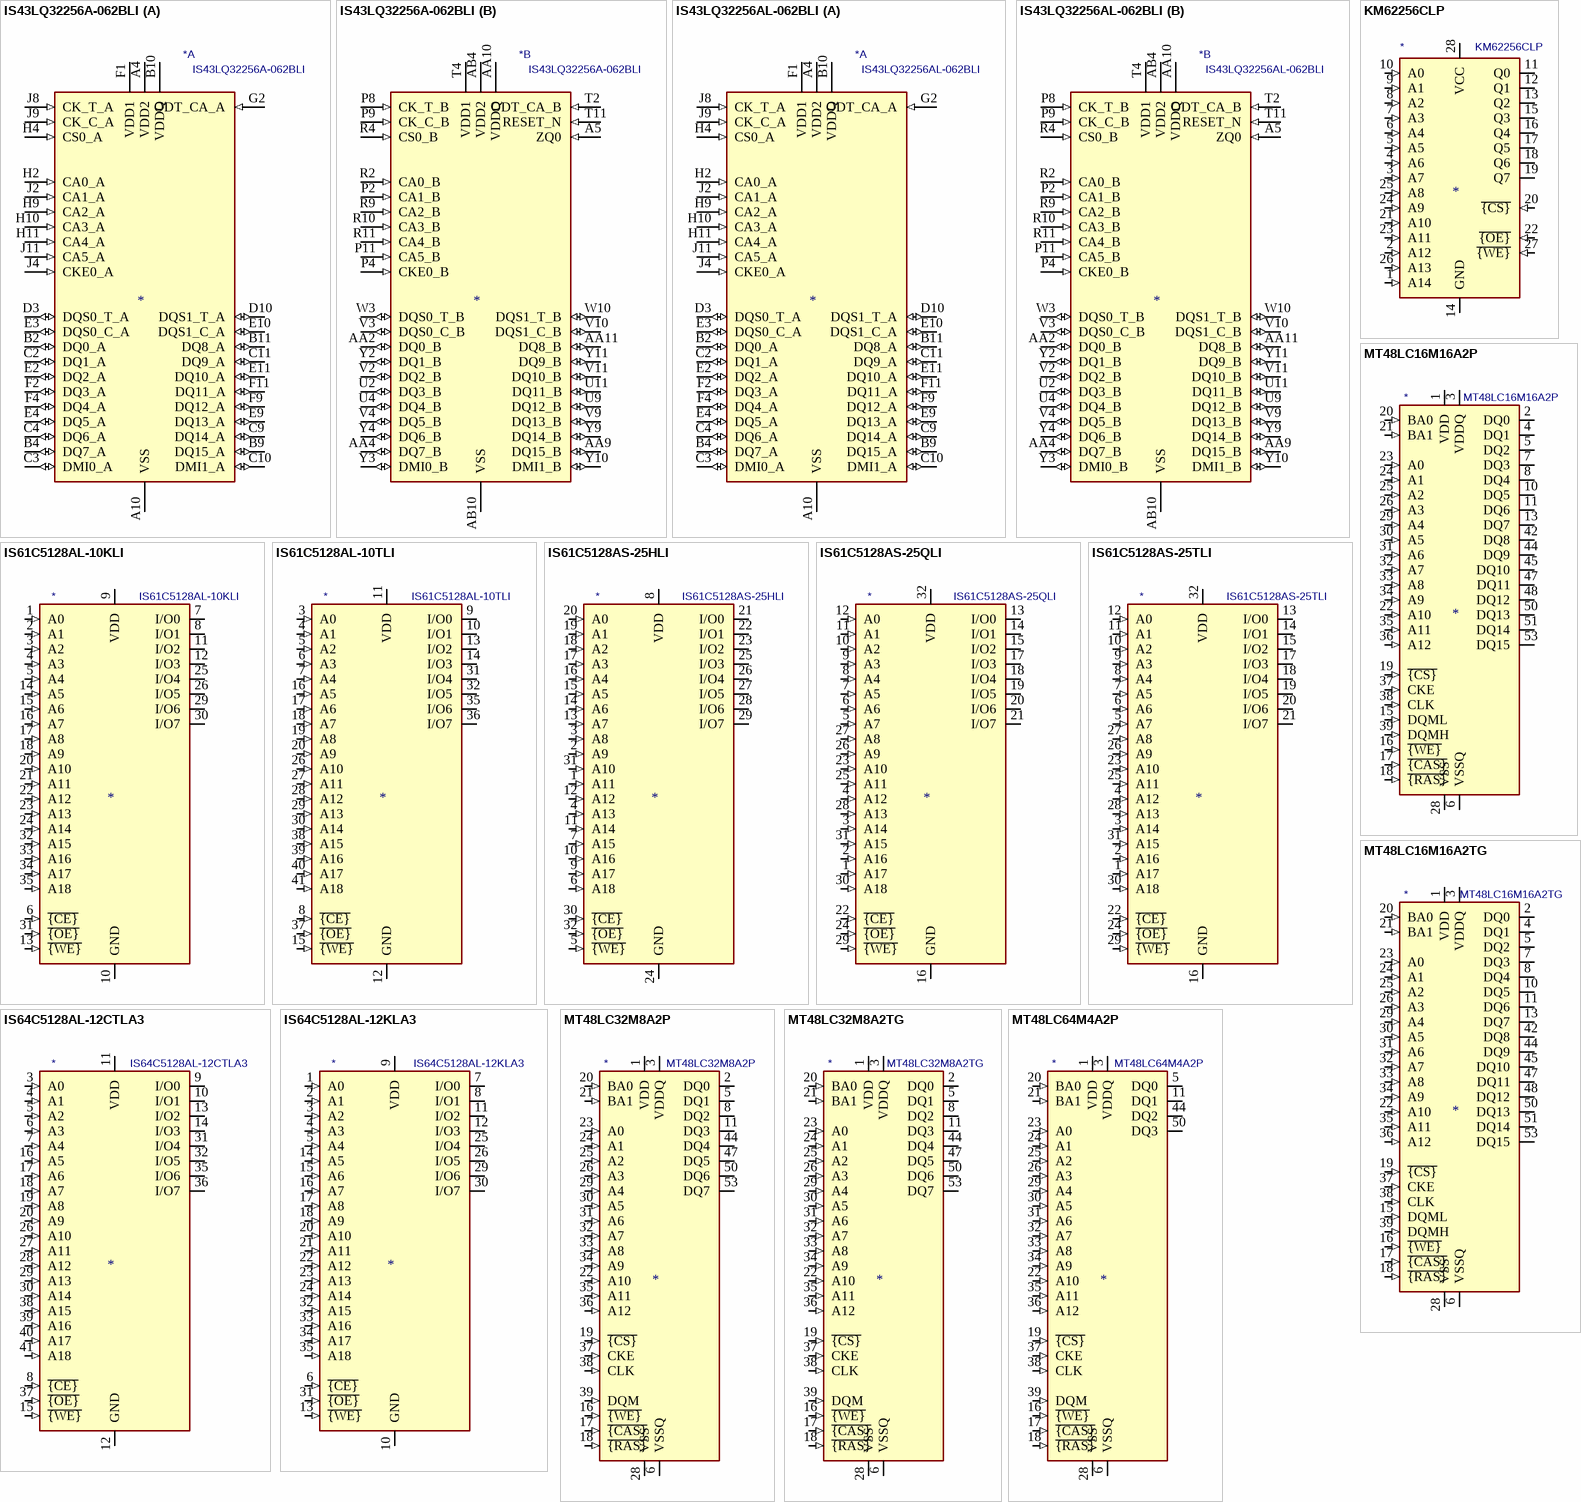
[diagram p2: symbols IS43LQ32256A-062BLI to MT48LC64M4A2P]

## IS43LQ32256A-062BLI
designator *  value IS43LQ32256A-062BLI
ki_keywords: DRAM MEMORY; ki_description: 256Mx32 bit Low Power Double Data Rate 4 (LPDDR4) SDRAM, 1600 MHz, Industrial, BGA-200; ki_fp_filters: BGA*10.0x14.5mm*P0.80x0.65mm*; Footprint: Package_BGA:BGA-200_10.0x14.5mm_Layout12x22_P0.80x0.65mm; Supplier: http://www.issi.com/WW/pdf/43-46LQ32256A-AL.pdf
footprint BGA-200_10.0x14.5mm_Layout12x22_P0.80x0.65mm
part A pins: A1 DNU (in) hidden, A2 DNU (in) hidden, A3 VSS hidden, A4 VDD2 (power), A9 VDD2 hidden, A10 VSS (power), A11 DNU (in) hidden, A12 DNU (in) hidden, B1 DNU (in) hidden, B2 DQ0_A (io), B3 VDDQ hidden, B4 DQ7_A (io), B5 VDDQ hidden, B8 VDDQ hidden, B9 DQ15_A (io), B10 VDDQ (power), B11 DQ8_A (io), B12 DNU (in) hidden, C1 VSS hidden, C2 DQ1_A (io), C3 DMI0_A (io), C4 DQ6_A (io), C5 VSS hidden, C8 VSS hidden, C9 DQ14_A (io), C10 DMI1_A (io), C11 DQ9_A (io), C12 VSS hidden, D1 VDDQ hidden, D2 VSS hidden, D3 DQS0_T_A (io), D4 VSS hidden, D5 VDDQ hidden, D8 VDDQ hidden, D9 VSS hidden, D10 DQS1_T_A (io), D11 VSS hidden, D12 VDDQ hidden, E1 VSS hidden, E2 DQ2_A (io), E3 DQS0_C_A (io), E4 DQ5_A (io), E5 VSS hidden, E8 VSS hidden, E9 DQ13_A (io), E10 DQS1_C_A (io), E11 DQ10_A (io), E12 VSS hidden, F1 VDD1 (power), F2 DQ3_A (io), F3 VDDQ hidden, F4 DQ4_A (io), F5 VDD2 hidden, F8 VDD2 hidden, F9 DQ12_A (io), F10 VDDQ hidden, F11 DQ11_A (io), F12 VDD1 hidden, G1 VSS hidden, G2 ODT_CA_A (in), G3 VSS hidden, G4 VDD1 hidden, G5 VSS hidden, G8 VSS hidden, G9 VDD1 hidden, G10 VSS hidden, G12 VSS hidden, H1 VDD2 hidden, H2 CA0_A (in), H3 NC (in) hidden, H4 CS0_A (in), H5 VDD2 hidden, H8 VDD2 hidden, H9 CA2_A (in), H10 CA3_A (in), H11 CA4_A (in), H12 VDD2 hidden, J1 VSS hidden, J2 CA1_A (in), J3 VSS hidden, J4 CKE0_A (in), J5 NC (in) hidden, J8 CK_T_A (in), J9 CK_C_A (in), J10 VSS hidden, J11 CA5_A (in), J12 VSS hidden, K1 VDD2 hidden, K2 VSS hidden, K3 VDD2 hidden, K4 VSS hidden, K5 NC (in) hidden, K8 NC (in) hidden, K9 VSS hidden, K10 VDD2 hidden, K11 VSS hidden, K12 VDD2 hidden
part B pins: A5 ZQ0 (in), A8 NC (in) hidden, AA1 DNU (in) hidden, AA2 DQ0_B (io), AA3 VDDQ hidden, AA4 DQ7_B (io), AA5 VDDQ hidden, AA8 VDDQ hidden, AA9 DQ15_B (io), AA10 VDDQ (power), AA11 DQ8_B (io), AA12 DNU (in) hidden, AB1 DNU (in) hidden, AB2 DNU (in) hidden, AB3 VSS hidden, AB4 VDD2 (power), AB5 VSS hidden, AB8 VSS hidden, AB9 VDD2 hidden, AB10 VSS (power), AB11 DNU (in) hidden, AB12 DNU (in) hidden, G11 NC (in) hidden, N1 VDD2 hidden, N2 VSS hidden, N3 VDD2 hidden, N4 VSS hidden, N5 NC (in) hidden, N8 NC (in) hidden, N9 VSS hidden, N10 VDD2 hidden, N11 VSS hidden, N12 VDD2 hidden, P1 VSS hidden, P2 CA1_B (in), P3 VSS hidden, P4 CKE0_B (in), P5 NC (in) hidden, P8 CK_T_B (in), P9 CK_C_B (in), P10 VSS hidden, P11 CA5_B (in), P12 VSS hidden, R1 VDD2 hidden, R2 CA0_B (in), R3 NC (in) hidden, R4 CS0_B (in), R5 VDD2 hidden, R8 VDD2 hidden, R9 CA2_B (in), R10 CA3_B (in), R11 CA4_B (in), R12 VDD2 hidden, T1 VSS hidden, T2 ODT_CA_B (in), T3 VSS hidden, T4 VDD1 (power), T5 VSS hidden, T8 VSS hidden, T9 VDD1 hidden, T10 VSS hidden, T11 RESET_N (in), T12 VSS hidden, U1 VDD1 hidden, U2 DQ3_B (io), U3 VDDQ hidden, U4 DQ4_B (io), U5 VDD2 hidden, U8 VDD2 hidden, U9 DQ12_B (io), U10 VDDQ hidden, U11 DQ11_B (io), U12 VDD1 hidden, V1 VSS hidden, V2 DQ2_B (io), V3 DQS0_C_B (io), V4 DQ5_B (io), V5 VSS hidden, V8 VSS hidden, V9 DQ13_B (io), V10 DQS1_C_B (io), V11 DQ10_B (io), V12 VSS hidden, W1 VDDQ hidden, W2 VSS hidden, W3 DQS0_T_B (io), W4 VSS hidden, W5 VDDQ hidden, W8 VDDQ hidden, W9 VSS hidden, W10 DQS1_T_B (io), W11 VSS hidden, W12 VDDQ hidden, Y1 VSS hidden, Y2 DQ1_B (io), Y3 DMI0_B (io), Y4 DQ6_B (io), Y5 VSS hidden, Y8 VSS hidden, Y9 DQ14_B (io), Y10 DMI1_B (io), Y11 DQ9_B (io), Y12 VSS hidden

## IS43LQ32256AL-062BLI
designator *  value IS43LQ32256AL-062BLI
ki_keywords: DRAM MEMORY; ki_description: 256Mx32 bit Low Power Double Data Rate 4X (LPDDR4X) SDRAM, 1600 MHz, Industrial, BGA-200; ki_fp_filters: BGA*10.0x14.5mm*P0.80x0.65mm*; Footprint: Package_BGA:BGA-200_10.0x14.5mm_Layout12x22_P0.80x0.65mm; Supplier: http://www.issi.com/WW/pdf/43-46LQ32256AL-AL.pdf
footprint BGA-200_10.0x14.5mm_Layout12x22_P0.80x0.65mm
part A pins: A1 DNU (in) hidden, A2 DNU (in) hidden, A3 VSS hidden, A4 VDD2 (power), A9 VDD2 hidden, A10 VSS (power), A11 DNU (in) hidden, A12 DNU (in) hidden, B1 DNU (in) hidden, B2 DQ0_A (io), B3 VDDQ hidden, B4 DQ7_A (io), B5 VDDQ hidden, B8 VDDQ hidden, B9 DQ15_A (io), B10 VDDQ (power), B11 DQ8_A (io), B12 DNU (in) hidden, C1 VSS hidden, C2 DQ1_A (io), C3 DMI0_A (io), C4 DQ6_A (io), C5 VSS hidden, C8 VSS hidden, C9 DQ14_A (io), C10 DMI1_A (io), C11 DQ9_A (io), C12 VSS hidden, D1 VDDQ hidden, D2 VSS hidden, D3 DQS0_T_A (io), D4 VSS hidden, D5 VDDQ hidden, D8 VDDQ hidden, D9 VSS hidden, D10 DQS1_T_A (io), D11 VSS hidden, D12 VDDQ hidden, E1 VSS hidden, E2 DQ2_A (io), E3 DQS0_C_A (io), E4 DQ5_A (io), E5 VSS hidden, E8 VSS hidden, E9 DQ13_A (io), E10 DQS1_C_A (io), E11 DQ10_A (io), E12 VSS hidden, F1 VDD1 (power), F2 DQ3_A (io), F3 VDDQ hidden, F4 DQ4_A (io), F5 VDD2 hidden, F8 VDD2 hidden, F9 DQ12_A (io), F10 VDDQ hidden, F11 DQ11_A (io), F12 VDD1 hidden, G1 VSS hidden, G2 ODT_CA_A (in), G3 VSS hidden, G4 VDD1 hidden, G5 VSS hidden, G8 VSS hidden, G9 VDD1 hidden, G10 VSS hidden, G12 VSS hidden, H1 VDD2 hidden, H2 CA0_A (in), H3 NC (in) hidden, H4 CS0_A (in), H5 VDD2 hidden, H8 VDD2 hidden, H9 CA2_A (in), H10 CA3_A (in), H11 CA4_A (in), H12 VDD2 hidden, J1 VSS hidden, J2 CA1_A (in), J3 VSS hidden, J4 CKE0_A (in), J5 NC (in) hidden, J8 CK_T_A (in), J9 CK_C_A (in), J10 VSS hidden, J11 CA5_A (in), J12 VSS hidden, K1 VDD2 hidden, K2 VSS hidden, K3 VDD2 hidden, K4 VSS hidden, K5 NC (in) hidden, K8 NC (in) hidden, K9 VSS hidden, K10 VDD2 hidden, K11 VSS hidden, K12 VDD2 hidden
part B pins: A5 ZQ0 (in), A8 NC (in) hidden, AA1 DNU (in) hidden, AA2 DQ0_B (io), AA3 VDDQ hidden, AA4 DQ7_B (io), AA5 VDDQ hidden, AA8 VDDQ hidden, AA9 DQ15_B (io), AA10 VDDQ (power), AA11 DQ8_B (io), AA12 DNU (in) hidden, AB1 DNU (in) hidden, AB2 DNU (in) hidden, AB3 VSS hidden, AB4 VDD2 (power), AB5 VSS hidden, AB8 VSS hidden, AB9 VDD2 hidden, AB10 VSS (power), AB11 DNU (in) hidden, AB12 DNU (in) hidden, G11 NC (in) hidden, N1 VDD2 hidden, N2 VSS hidden, N3 VDD2 hidden, N4 VSS hidden, N5 NC (in) hidden, N8 NC (in) hidden, N9 VSS hidden, N10 VDD2 hidden, N11 VSS hidden, N12 VDD2 hidden, P1 VSS hidden, P2 CA1_B (in), P3 VSS hidden, P4 CKE0_B (in), P5 NC (in) hidden, P8 CK_T_B (in), P9 CK_C_B (in), P10 VSS hidden, P11 CA5_B (in), P12 VSS hidden, R1 VDD2 hidden, R2 CA0_B (in), R3 NC (in) hidden, R4 CS0_B (in), R5 VDD2 hidden, R8 VDD2 hidden, R9 CA2_B (in), R10 CA3_B (in), R11 CA4_B (in), R12 VDD2 hidden, T1 VSS hidden, T2 ODT_CA_B (in), T3 VSS hidden, T4 VDD1 (power), T5 VSS hidden, T8 VSS hidden, T9 VDD1 hidden, T10 VSS hidden, T11 RESET_N (in), T12 VSS hidden, U1 VDD1 hidden, U2 DQ3_B (io), U3 VDDQ hidden, U4 DQ4_B (io), U5 VDD2 hidden, U8 VDD2 hidden, U9 DQ12_B (io), U10 VDDQ hidden, U11 DQ11_B (io), U12 VDD1 hidden, V1 VSS hidden, V2 DQ2_B (io), V3 DQS0_C_B (io), V4 DQ5_B (io), V5 VSS hidden, V8 VSS hidden, V9 DQ13_B (io), V10 DQS1_C_B (io), V11 DQ10_B (io), V12 VSS hidden, W1 VDDQ hidden, W2 VSS hidden, W3 DQS0_T_B (io), W4 VSS hidden, W5 VDDQ hidden, W8 VDDQ hidden, W9 VSS hidden, W10 DQS1_T_B (io), W11 VSS hidden, W12 VDDQ hidden, Y1 VSS hidden, Y2 DQ1_B (io), Y3 DMI0_B (io), Y4 DQ6_B (io), Y5 VSS hidden, Y8 VSS hidden, Y9 DQ14_B (io), Y10 DMI1_B (io), Y11 DQ9_B (io), Y12 VSS hidden

## IS61C5128AL-10KLI
designator *  value IS61C5128AL-10KLI
ki_keywords: SRAM MEMORY; ki_description: 512K x 8 HIGH-SPEED CMOS STATIC RAM, 10ns, SOJ-36; ki_fp_filters: SOJ*10.16x23.49mm*P1.27mm*; Footprint: Package_SO:SOJ-36_10.16x23.49mm_P1.27mm; Supplier: http://www.issi.com/WW/pdf/61-64C5128AL.pdf
footprint SOJ-36_10.16x23.49mm_P1.27mm
pins: 1 A0 (in), 2 A1 (in), 3 A2 (in), 4 A3 (in), 5 A4 (in), 6 ~{{CE}} (in), 7 I/O0 (io), 8 I/O1 (io), 9 VDD (power), 10 GND (power), 11 I/O2 (io), 12 I/O3 (io), 13 ~{{WE}} (in), 14 A5 (in), 15 A6 (in), 16 A7 (in), 17 A8 (in), 18 A9 (in), 19 NC (in) hidden, 20 A10 (in), 21 A11 (in), 22 A12 (in), 23 A13 (in), 24 A14 (in), 25 I/O4 (io), 26 I/O5 (io), 27 VDD hidden, 28 GND hidden, 29 I/O6 (io), 30 I/O7 (io), 31 ~{{OE}} (in), 32 A15 (in), 33 A16 (in), 34 A17 (in), 35 A18 (in), 36 NC (in) hidden

## IS61C5128AL-10TLI
designator *  value IS61C5128AL-10TLI
ki_keywords: SRAM MEMORY; ki_description: 512K x 8 HIGH-SPEED CMOS STATIC RAM, 10ns, TSOP II-44; ki_fp_filters: TSOP*10.16x18.41mm*P0.8mm*; Footprint: Package_SO:TSOP-II-44_10.16x18.41mm_P0.8mm; Supplier: http://www.issi.com/WW/pdf/61-64C5128AL.pdf
footprint TSOP-II-44_10.16x18.41mm_P0.8mm
pins: 1 NC (in) hidden, 2 NC (in) hidden, 3 A0 (in), 4 A1 (in), 5 A2 (in), 6 A3 (in), 7 A4 (in), 8 ~{{CE}} (in), 9 I/O0 (io), 10 I/O1 (io), 11 VDD (power), 12 GND (power), 13 I/O2 (io), 14 I/O3 (io), 15 ~{{WE}} (in), 16 A5 (in), 17 A6 (in), 18 A7 (in), 19 A8 (in), 20 A9 (in), 21 NC (in) hidden, 22 NC (in) hidden, 23 NC (in) hidden, 24 NC (in) hidden, 25 NC (in) hidden, 26 A10 (in), 27 A11 (in), 28 A12 (in), 29 A13 (in), 30 A14 (in), 31 I/O4 (io), 32 I/O5 (io), 33 VDD hidden, 34 GND hidden, 35 I/O6 (io), 36 I/O7 (io), 37 ~{{OE}} (in), 38 A15 (in), 39 A16 (in), 40 A17 (in), 41 A18 (in), 42 NC (in) hidden, 43 NC (in) hidden, 44 NC (in) hidden

## IS61C5128AS-25HLI
designator *  value IS61C5128AS-25HLI
ki_keywords: SRAM MEMORY; ki_description: 512K x 8 HIGH-SPEED CMOS STATIC RAM, 25ns, STSOP I-32; ki_fp_filters: TSOP*11.8x8mm*P0.5mm*; Footprint: Package_SO:TSOP-I-32_11.8x8mm_P0.5mm; Supplier: http://www.issi.com/WW/pdf/61-64C5128AL.pdf
footprint TSOP-I-32_11.8x8mm_P0.5mm
pins: 1 A11 (in), 2 A9 (in), 3 A8 (in), 4 A13 (in), 5 ~{{WE}} (in), 6 A18 (in), 7 A15 (in), 8 VDD (power), 9 A17 (in), 10 A16 (in), 11 A14 (in), 12 A12 (in), 13 A7 (in), 14 A6 (in), 15 A5 (in), 16 A4 (in), 17 A3 (in), 18 A2 (in), 19 A1 (in), 20 A0 (in), 21 I/O0 (io), 22 I/O1 (io), 23 I/O2 (io), 24 GND (power), 25 I/O3 (io), 26 I/O4 (io), 27 I/O5 (io), 28 I/O6 (io), 29 I/O7 (io), 30 ~{{CE}} (in), 31 A10 (in), 32 ~{{OE}} (in)

## IS61C5128AS-25QLI
designator *  value IS61C5128AS-25QLI
ki_keywords: SRAM MEMORY; ki_description: 512K x 8 HIGH-SPEED CMOS STATIC RAM, 25ns, SOP-32; ki_fp_filters: SSOP*11.305x20.495mm*P1.27mm*; Footprint: Package_SO:SSOP-32_11.305x20.495mm_P1.27mm; Supplier: http://www.issi.com/WW/pdf/61-64C5128AL.pdf
footprint SSOP-32_11.305x20.495mm_P1.27mm
pins: 1 A17 (in), 2 A16 (in), 3 A14 (in), 4 A12 (in), 5 A7 (in), 6 A6 (in), 7 A5 (in), 8 A4 (in), 9 A3 (in), 10 A2 (in), 11 A1 (in), 12 A0 (in), 13 I/O0 (io), 14 I/O1 (io), 15 I/O2 (io), 16 GND (power), 17 I/O3 (io), 18 I/O4 (io), 19 I/O5 (io), 20 I/O6 (io), 21 I/O7 (io), 22 ~{{CE}} (in), 23 A10 (in), 24 ~{{OE}} (in), 25 A11 (in), 26 A9 (in), 27 A8 (in), 28 A13 (in), 29 ~{{WE}} (in), 30 A18 (in), 31 A15 (in), 32 VDD (power)

## IS61C5128AS-25TLI
designator *  value IS61C5128AS-25TLI
ki_keywords: SRAM MEMORY; ki_description: 512K x 8 HIGH-SPEED CMOS STATIC RAM, 25ns, TSOP II-32; ki_fp_filters: TSOP*21.0x10.2mm*P1.27mm*; Footprint: Package_SO:TSOP-II-32_21.0x10.2mm_P1.27mm; Supplier: http://www.issi.com/WW/pdf/61-64C5128AL.pdf
footprint TSOP-II-32_21.0x10.2mm_P1.27mm
pins: 1 A17 (in), 2 A16 (in), 3 A14 (in), 4 A12 (in), 5 A7 (in), 6 A6 (in), 7 A5 (in), 8 A4 (in), 9 A3 (in), 10 A2 (in), 11 A1 (in), 12 A0 (in), 13 I/O0 (io), 14 I/O1 (io), 15 I/O2 (io), 16 GND (power), 17 I/O3 (io), 18 I/O4 (io), 19 I/O5 (io), 20 I/O6 (io), 21 I/O7 (io), 22 ~{{CE}} (in), 23 A10 (in), 24 ~{{OE}} (in), 25 A11 (in), 26 A9 (in), 27 A8 (in), 28 A13 (in), 29 ~{{WE}} (in), 30 A18 (in), 31 A15 (in), 32 VDD (power)

## IS64C5128AL-12CTLA3
designator *  value IS64C5128AL-12CTLA3
ki_keywords: SRAM MEMORY; ki_description: 512K x 8 HIGH-SPEED CMOS STATIC RAM, 12ns, TSOP II-44; ki_fp_filters: TSOP*10.16x18.41mm*P0.8mm*; Footprint: Package_SO:TSOP-II-44_10.16x18.41mm_P0.8mm; Supplier: http://www.issi.com/WW/pdf/61-64C5128AL.pdf
footprint TSOP-II-44_10.16x18.41mm_P0.8mm
pins: 1 NC (in) hidden, 2 NC (in) hidden, 3 A0 (in), 4 A1 (in), 5 A2 (in), 6 A3 (in), 7 A4 (in), 8 ~{{CE}} (in), 9 I/O0 (io), 10 I/O1 (io), 11 VDD (power), 12 GND (power), 13 I/O2 (io), 14 I/O3 (io), 15 ~{{WE}} (in), 16 A5 (in), 17 A6 (in), 18 A7 (in), 19 A8 (in), 20 A9 (in), 21 NC (in) hidden, 22 NC (in) hidden, 23 NC (in) hidden, 24 NC (in) hidden, 25 NC (in) hidden, 26 A10 (in), 27 A11 (in), 28 A12 (in), 29 A13 (in), 30 A14 (in), 31 I/O4 (io), 32 I/O5 (io), 33 VDD hidden, 34 GND hidden, 35 I/O6 (io), 36 I/O7 (io), 37 ~{{OE}} (in), 38 A15 (in), 39 A16 (in), 40 A17 (in), 41 A18 (in), 42 NC (in) hidden, 43 NC (in) hidden, 44 NC (in) hidden

## IS64C5128AL-12KLA3
designator *  value IS64C5128AL-12KLA3
ki_keywords: SRAM MEMORY; ki_description: 512K x 8 HIGH-SPEED CMOS STATIC RAM, 12ns, SOJ-36; ki_fp_filters: SOJ*10.16x23.49mm*P1.27mm*; Footprint: Package_SO:SOJ-36_10.16x23.49mm_P1.27mm; Supplier: http://www.issi.com/WW/pdf/61-64C5128AL.pdf
footprint SOJ-36_10.16x23.49mm_P1.27mm
pins: 1 A0 (in), 2 A1 (in), 3 A2 (in), 4 A3 (in), 5 A4 (in), 6 ~{{CE}} (in), 7 I/O0 (io), 8 I/O1 (io), 9 VDD (power), 10 GND (power), 11 I/O2 (io), 12 I/O3 (io), 13 ~{{WE}} (in), 14 A5 (in), 15 A6 (in), 16 A7 (in), 17 A8 (in), 18 A9 (in), 19 NC (in) hidden, 20 A10 (in), 21 A11 (in), 22 A12 (in), 23 A13 (in), 24 A14 (in), 25 I/O4 (io), 26 I/O5 (io), 27 VDD hidden, 28 GND hidden, 29 I/O6 (io), 30 I/O7 (io), 31 ~{{OE}} (in), 32 A15 (in), 33 A16 (in), 34 A17 (in), 35 A18 (in), 36 NC (in) hidden

## KM62256CLP
designator *  value KM62256CLP
ki_keywords: RAM SRAM CMOS MEMORY; ki_description: 32Kx8 bit Low Power CMOS Static RAM, 55/70ns, DIP-28; ki_fp_filters: DIP*W15.24mm*; Footprint: Package_DIP:DIP-28_W15.24mm; Supplier: https://www.futurlec.com/Datasheet/Memory/62256.pdf
footprint DIP-28_W15.24mm
pins: 1 A14 (in), 2 A12 (in), 3 A7 (in), 4 A6 (in), 5 A5 (in), 6 A4 (in), 7 A3 (in), 8 A2 (in), 9 A1 (in), 10 A0 (in), 11 Q0 (hiz), 12 Q1 (hiz), 13 Q2 (hiz), 14 GND (power), 15 Q3 (hiz), 16 Q4 (hiz), 17 Q5 (hiz), 18 Q6 (hiz), 19 Q7 (hiz), 20 ~{{CS}} (in), 21 A10 (in), 22 ~{{OE}} (in), 23 A11 (in), 24 A9 (in), 25 A8 (in), 26 A13 (in), 27 ~{{WE}} (in), 28 VCC (power)

## MT48LC16M16A2P
designator *  value MT48LC16M16A2P
ki_keywords: SDRAM Synchronous DRAM PC100 PC133 256Mb 16Mbx16 MEMORY; ki_description: 256M – (16M x 16 bit) Synchronous DRAM (SDRAM), TSOP-II-54; ki_fp_filters: TSOP?II*22.2x10.16mm*P0.8mm*; Footprint: Package_SO:TSOP-II-54_22.2x10.16mm_P0.8mm; Supplier: https://www.micron.com/-/media/client/global/documents/products/data-sheet/dram/256mb_sdr.pdf
footprint TSOP-II-54_22.2x10.16mm_P0.8mm
pins: 1 VDD (power), 2 DQ0 (io), 3 VDDQ (power), 4 DQ1 (io), 5 DQ2 (io), 6 VSSQ (power), 7 DQ3 (io), 8 DQ4 (io), 9 VDDQ hidden, 10 DQ5 (io), 11 DQ6 (io), 12 VSSQ hidden, 13 DQ7 (io), 14 VDD hidden, 15 DQML (in), 16 ~{{WE}} (in), 17 ~{{CAS}} (in), 18 ~{{RAS}} (in), 19 ~{{CS}} (in), 20 BA0 (in), 21 BA1 (in), 22 A10 (in), 23 A0 (in), 24 A1 (in), 25 A2 (in), 26 A3 (in), 27 VDD hidden, 28 VSS (power), 29 A4 (in), 30 A5 (in), 31 A6 (in), 32 A7 (in), 33 A8 (in), 34 A9 (in), 35 A11 (in), 36 A12 (in), 37 CKE (in), 38 CLK (in), 39 DQMH (in), 40 NC (in) hidden, 41 VSS hidden, 42 DQ8 (io), 43 VDDQ hidden, 44 DQ9 (io), 45 DQ10 (io), 46 VSSQ hidden, 47 DQ11 (io), 48 DQ12 (io), 49 VDDQ hidden, 50 DQ13 (io), 51 DQ14 (io), 52 VSSQ hidden, 53 DQ15 (io), 54 VSS hidden

## MT48LC16M16A2TG
designator *  value MT48LC16M16A2TG
ki_keywords: SDRAM Synchronous DRAM PC100 PC133 256Mb 16Mbx16 MEMORY; ki_description: 256M – (16M x 16 bit) Synchronous DRAM (SDRAM), TSOP-II-54; ki_fp_filters: TSOP?II*22.2x10.16mm*P0.8mm*; Footprint: Package_SO:TSOP-II-54_22.2x10.16mm_P0.8mm; Supplier: https://www.micron.com/-/media/client/global/documents/products/data-sheet/dram/256mb_sdr.pdf
footprint TSOP-II-54_22.2x10.16mm_P0.8mm
pins: 1 VDD (power), 2 DQ0 (io), 3 VDDQ (power), 4 DQ1 (io), 5 DQ2 (io), 6 VSSQ (power), 7 DQ3 (io), 8 DQ4 (io), 9 VDDQ hidden, 10 DQ5 (io), 11 DQ6 (io), 12 VSSQ hidden, 13 DQ7 (io), 14 VDD hidden, 15 DQML (in), 16 ~{{WE}} (in), 17 ~{{CAS}} (in), 18 ~{{RAS}} (in), 19 ~{{CS}} (in), 20 BA0 (in), 21 BA1 (in), 22 A10 (in), 23 A0 (in), 24 A1 (in), 25 A2 (in), 26 A3 (in), 27 VDD hidden, 28 VSS (power), 29 A4 (in), 30 A5 (in), 31 A6 (in), 32 A7 (in), 33 A8 (in), 34 A9 (in), 35 A11 (in), 36 A12 (in), 37 CKE (in), 38 CLK (in), 39 DQMH (in), 40 NC (in) hidden, 41 VSS hidden, 42 DQ8 (io), 43 VDDQ hidden, 44 DQ9 (io), 45 DQ10 (io), 46 VSSQ hidden, 47 DQ11 (io), 48 DQ12 (io), 49 VDDQ hidden, 50 DQ13 (io), 51 DQ14 (io), 52 VSSQ hidden, 53 DQ15 (io), 54 VSS hidden

## MT48LC32M8A2P
designator *  value MT48LC32M8A2P
ki_keywords: SDRAM Synchronous DRAM PC100 PC133 256Mb 32Mbx8 MEMORY; ki_description: 256M – (32M x 8 bit) Synchronous DRAM (SDRAM), TSOP-II-54; ki_fp_filters: TSOP?II*22.2x10.16mm*P0.8mm*; Footprint: Package_SO:TSOP-II-54_22.2x10.16mm_P0.8mm; Supplier: https://www.micron.com/-/media/client/global/documents/products/data-sheet/dram/256mb_sdr.pdf
footprint TSOP-II-54_22.2x10.16mm_P0.8mm
pins: 1 VDD (power), 2 DQ0 (io), 3 VDDQ (power), 4 NC (in) hidden, 5 DQ1 (io), 6 VSSQ (power), 7 NC (in) hidden, 8 DQ2 (io), 9 VDDQ hidden, 10 NC (in) hidden, 11 DQ3 (io), 12 VSSQ hidden, 13 NC (in) hidden, 14 VDD hidden, 15 NC (in) hidden, 16 ~{{WE}} (in), 17 ~{{CAS}} (in), 18 ~{{RAS}} (in), 19 ~{{CS}} (in), 20 BA0 (in), 21 BA1 (in), 22 A10 (in), 23 A0 (in), 24 A1 (in), 25 A2 (in), 26 A3 (in), 27 VDD hidden, 28 VSS (power), 29 A4 (in), 30 A5 (in), 31 A6 (in), 32 A7 (in), 33 A8 (in), 34 A9 (in), 35 A11 (in), 36 A12 (in), 37 CKE (in), 38 CLK (in), 39 DQM (in), 40 NC (in) hidden, 41 VSS hidden, 42 NC (in) hidden, 43 VDDQ hidden, 44 DQ4 (io), 45 NC (in) hidden, 46 VSSQ hidden, 47 DQ5 (io), 48 NC (in) hidden, 49 VDDQ hidden, 50 DQ6 (io), 51 NC (in) hidden, 52 VSSQ hidden, 53 DQ7 (io), 54 VSS hidden

## MT48LC32M8A2TG
designator *  value MT48LC32M8A2TG
ki_keywords: SDRAM Synchronous DRAM PC100 PC133 256Mb 32Mbx8 MEMORY; ki_description: 256M – (32M x 8 bit) Synchronous DRAM (SDRAM), TSOP-II-54; ki_fp_filters: TSOP?II*22.2x10.16mm*P0.8mm*; Footprint: Package_SO:TSOP-II-54_22.2x10.16mm_P0.8mm; Supplier: https://www.micron.com/-/media/client/global/documents/products/data-sheet/dram/256mb_sdr.pdf
footprint TSOP-II-54_22.2x10.16mm_P0.8mm
pins: 1 VDD (power), 2 DQ0 (io), 3 VDDQ (power), 4 NC (in) hidden, 5 DQ1 (io), 6 VSSQ (power), 7 NC (in) hidden, 8 DQ2 (io), 9 VDDQ hidden, 10 NC (in) hidden, 11 DQ3 (io), 12 VSSQ hidden, 13 NC (in) hidden, 14 VDD hidden, 15 NC (in) hidden, 16 ~{{WE}} (in), 17 ~{{CAS}} (in), 18 ~{{RAS}} (in), 19 ~{{CS}} (in), 20 BA0 (in), 21 BA1 (in), 22 A10 (in), 23 A0 (in), 24 A1 (in), 25 A2 (in), 26 A3 (in), 27 VDD hidden, 28 VSS (power), 29 A4 (in), 30 A5 (in), 31 A6 (in), 32 A7 (in), 33 A8 (in), 34 A9 (in), 35 A11 (in), 36 A12 (in), 37 CKE (in), 38 CLK (in), 39 DQM (in), 40 NC (in) hidden, 41 VSS hidden, 42 NC (in) hidden, 43 VDDQ hidden, 44 DQ4 (io), 45 NC (in) hidden, 46 VSSQ hidden, 47 DQ5 (io), 48 NC (in) hidden, 49 VDDQ hidden, 50 DQ6 (io), 51 NC (in) hidden, 52 VSSQ hidden, 53 DQ7 (io), 54 VSS hidden

## MT48LC64M4A2P
designator *  value MT48LC64M4A2P
ki_keywords: SDRAM Synchronous DRAM PC100 PC133 256Mb 64Mbx4 MEMORY; ki_description: 256M – (64M x 4 bit) Synchronous DRAM (SDRAM), TSOP-II-54; ki_fp_filters: TSOP?II*22.2x10.16mm*P0.8mm*; Footprint: Package_SO:TSOP-II-54_22.2x10.16mm_P0.8mm; Supplier: https://www.micron.com/-/media/client/global/documents/products/data-sheet/dram/256mb_sdr.pdf
footprint TSOP-II-54_22.2x10.16mm_P0.8mm
pins: 1 VDD (power), 2 NC (in) hidden, 3 VDDQ (power), 4 NC (in) hidden, 5 DQ0 (io), 6 VSSQ (power), 7 NC (in) hidden, 8 NC (in) hidden, 9 VDDQ hidden, 10 NC (in) hidden, 11 DQ1 (io), 12 VSSQ hidden, 13 NC (in) hidden, 14 VDD hidden, 15 NC (in) hidden, 16 ~{{WE}} (in), 17 ~{{CAS}} (in), 18 ~{{RAS}} (in), 19 ~{{CS}} (in), 20 BA0 (in), 21 BA1 (in), 22 A10 (in), 23 A0 (in), 24 A1 (in), 25 A2 (in), 26 A3 (in), 27 VDD hidden, 28 VSS (power), 29 A4 (in), 30 A5 (in), 31 A6 (in), 32 A7 (in), 33 A8 (in), 34 A9 (in), 35 A11 (in), 36 A12 (in), 37 CKE (in), 38 CLK (in), 39 DQM (in), 40 NC (in) hidden, 41 VSS hidden, 42 NC (in) hidden, 43 VDDQ hidden, 44 DQ2 (io), 45 NC (in) hidden, 46 VSSQ hidden, 47 NC (in) hidden, 48 NC (in) hidden, 49 VDDQ hidden, 50 DQ3 (io), 51 NC (in) hidden, 52 VSSQ hidden, 53 NC (in) hidden, 54 VSS hidden

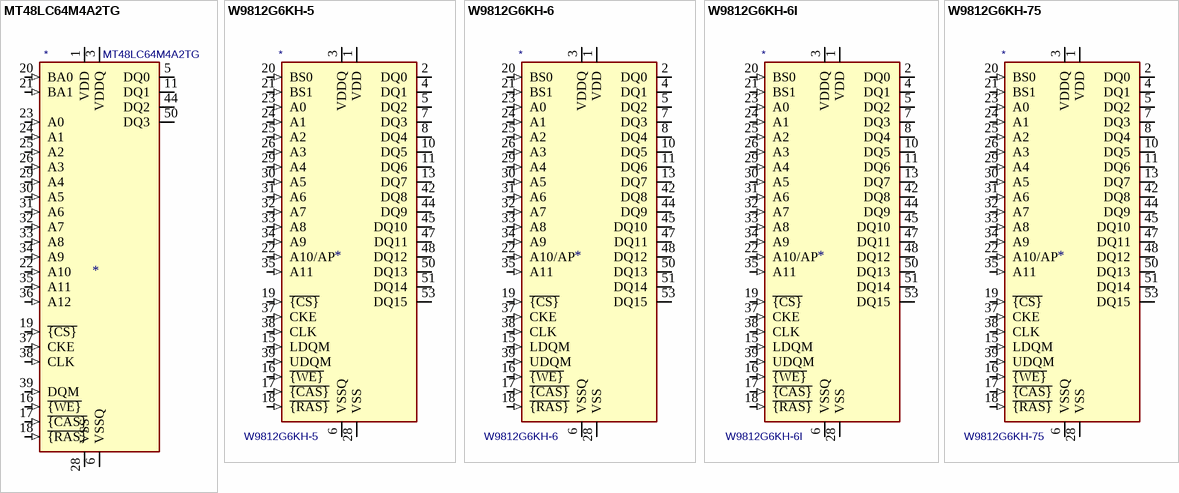
[diagram p3: symbols MT48LC64M4A2TG to W9812G6KH-75]

## MT48LC64M4A2TG
designator *  value MT48LC64M4A2TG
ki_keywords: SDRAM Synchronous DRAM PC100 PC133 256Mb 64Mbx4 MEMORY; ki_description: 256M – (64M x 4 bit) Synchronous DRAM (SDRAM), TSOP-II-54; ki_fp_filters: TSOP?II*22.2x10.16mm*P0.8mm*; Footprint: Package_SO:TSOP-II-54_22.2x10.16mm_P0.8mm; Supplier: https://www.micron.com/-/media/client/global/documents/products/data-sheet/dram/256mb_sdr.pdf
footprint TSOP-II-54_22.2x10.16mm_P0.8mm
pins: 1 VDD (power), 2 NC (in) hidden, 3 VDDQ (power), 4 NC (in) hidden, 5 DQ0 (io), 6 VSSQ (power), 7 NC (in) hidden, 8 NC (in) hidden, 9 VDDQ hidden, 10 NC (in) hidden, 11 DQ1 (io), 12 VSSQ hidden, 13 NC (in) hidden, 14 VDD hidden, 15 NC (in) hidden, 16 ~{{WE}} (in), 17 ~{{CAS}} (in), 18 ~{{RAS}} (in), 19 ~{{CS}} (in), 20 BA0 (in), 21 BA1 (in), 22 A10 (in), 23 A0 (in), 24 A1 (in), 25 A2 (in), 26 A3 (in), 27 VDD hidden, 28 VSS (power), 29 A4 (in), 30 A5 (in), 31 A6 (in), 32 A7 (in), 33 A8 (in), 34 A9 (in), 35 A11 (in), 36 A12 (in), 37 CKE (in), 38 CLK (in), 39 DQM (in), 40 NC (in) hidden, 41 VSS hidden, 42 NC (in) hidden, 43 VDDQ hidden, 44 DQ2 (io), 45 NC (in) hidden, 46 VSSQ hidden, 47 NC (in) hidden, 48 NC (in) hidden, 49 VDDQ hidden, 50 DQ3 (io), 51 NC (in) hidden, 52 VSSQ hidden, 53 NC (in) hidden, 54 VSS hidden

## W9812G6KH-5
designator *  value W9812G6KH-5
ki_keywords: DRAM MEMORY; ki_description: 128Mb Synchronous DRAM, 2 Mb x 16 b x 4 Banks, 200 MHz, TSOP-II-54; ki_fp_filters: TSOP?II*22.2x10.16mm*P0.8mm*; Footprint: Package_SO:TSOP-II-54_22.2x10.16mm_P0.8mm; Supplier: https://www.winbond.com/resource-files/da00-w9812g6khc1.pdf
footprint TSOP-II-54_22.2x10.16mm_P0.8mm
pins: 1 VDD (power), 2 DQ0 (io), 3 VDDQ (power), 4 DQ1 (io), 5 DQ2 (io), 6 VSSQ (power), 7 DQ3 (io), 8 DQ4 (io), 9 VDDQ hidden, 10 DQ5 (io), 11 DQ6 (io), 12 VSSQ hidden, 13 DQ7 (io), 14 VDD hidden, 15 LDQM (in), 16 ~{{WE}} (in), 17 ~{{CAS}} (in), 18 ~{{RAS}} (in), 19 ~{{CS}} (in), 20 BS0 (in), 21 BS1 (in), 22 A10/AP (in), 23 A0 (in), 24 A1 (in), 25 A2 (in), 26 A3 (in), 27 VDD hidden, 28 VSS (power), 29 A4 (in), 30 A5 (in), 31 A6 (in), 32 A7 (in), 33 A8 (in), 34 A9 (in), 35 A11 (in), 36 NC (in) hidden, 37 CKE (in), 38 CLK (in), 39 UDQM (in), 40 NC (in) hidden, 41 VSS hidden, 42 DQ8 (io), 43 VDDQ hidden, 44 DQ9 (io), 45 DQ10 (io), 46 VSSQ hidden, 47 DQ11 (io), 48 DQ12 (io), 49 VDDQ hidden, 50 DQ13 (io), 51 DQ14 (io), 52 VSSQ hidden, 53 DQ15 (io), 54 VSS hidden

## W9812G6KH-6
designator *  value W9812G6KH-6
ki_keywords: DRAM MEMORY; ki_description: 128Mb Synchronous DRAM, 2 Mb x 16 b x 4 Banks, 166 MHz, TSOP-II-54; ki_fp_filters: TSOP?II*22.2x10.16mm*P0.8mm*; Footprint: Package_SO:TSOP-II-54_22.2x10.16mm_P0.8mm; Supplier: https://www.winbond.com/resource-files/da00-w9812g6khc1.pdf
footprint TSOP-II-54_22.2x10.16mm_P0.8mm
pins: 1 VDD (power), 2 DQ0 (io), 3 VDDQ (power), 4 DQ1 (io), 5 DQ2 (io), 6 VSSQ (power), 7 DQ3 (io), 8 DQ4 (io), 9 VDDQ hidden, 10 DQ5 (io), 11 DQ6 (io), 12 VSSQ hidden, 13 DQ7 (io), 14 VDD hidden, 15 LDQM (in), 16 ~{{WE}} (in), 17 ~{{CAS}} (in), 18 ~{{RAS}} (in), 19 ~{{CS}} (in), 20 BS0 (in), 21 BS1 (in), 22 A10/AP (in), 23 A0 (in), 24 A1 (in), 25 A2 (in), 26 A3 (in), 27 VDD hidden, 28 VSS (power), 29 A4 (in), 30 A5 (in), 31 A6 (in), 32 A7 (in), 33 A8 (in), 34 A9 (in), 35 A11 (in), 36 NC (in) hidden, 37 CKE (in), 38 CLK (in), 39 UDQM (in), 40 NC (in) hidden, 41 VSS hidden, 42 DQ8 (io), 43 VDDQ hidden, 44 DQ9 (io), 45 DQ10 (io), 46 VSSQ hidden, 47 DQ11 (io), 48 DQ12 (io), 49 VDDQ hidden, 50 DQ13 (io), 51 DQ14 (io), 52 VSSQ hidden, 53 DQ15 (io), 54 VSS hidden

## W9812G6KH-6I
designator *  value W9812G6KH-6I
ki_keywords: DRAM MEMORY; ki_description: 128Mb Synchronous DRAM, 2 Mb x 16 b x 4 Banks, 166 MHz, TSOP-II-54; ki_fp_filters: TSOP?II*22.2x10.16mm*P0.8mm*; Footprint: Package_SO:TSOP-II-54_22.2x10.16mm_P0.8mm; Supplier: https://www.winbond.com/resource-files/da00-w9812g6khc1.pdf
footprint TSOP-II-54_22.2x10.16mm_P0.8mm
pins: 1 VDD (power), 2 DQ0 (io), 3 VDDQ (power), 4 DQ1 (io), 5 DQ2 (io), 6 VSSQ (power), 7 DQ3 (io), 8 DQ4 (io), 9 VDDQ hidden, 10 DQ5 (io), 11 DQ6 (io), 12 VSSQ hidden, 13 DQ7 (io), 14 VDD hidden, 15 LDQM (in), 16 ~{{WE}} (in), 17 ~{{CAS}} (in), 18 ~{{RAS}} (in), 19 ~{{CS}} (in), 20 BS0 (in), 21 BS1 (in), 22 A10/AP (in), 23 A0 (in), 24 A1 (in), 25 A2 (in), 26 A3 (in), 27 VDD hidden, 28 VSS (power), 29 A4 (in), 30 A5 (in), 31 A6 (in), 32 A7 (in), 33 A8 (in), 34 A9 (in), 35 A11 (in), 36 NC (in) hidden, 37 CKE (in), 38 CLK (in), 39 UDQM (in), 40 NC (in) hidden, 41 VSS hidden, 42 DQ8 (io), 43 VDDQ hidden, 44 DQ9 (io), 45 DQ10 (io), 46 VSSQ hidden, 47 DQ11 (io), 48 DQ12 (io), 49 VDDQ hidden, 50 DQ13 (io), 51 DQ14 (io), 52 VSSQ hidden, 53 DQ15 (io), 54 VSS hidden

## W9812G6KH-75
designator *  value W9812G6KH-75
ki_keywords: DRAM MEMORY; ki_description: 128Mb Synchronous DRAM, 2 Mb x 16 b x 4 Banks, 133 MHz, TSOP-II-54; ki_fp_filters: TSOP?II*22.2x10.16mm*P0.8mm*; Footprint: Package_SO:TSOP-II-54_22.2x10.16mm_P0.8mm; Supplier: https://www.winbond.com/resource-files/da00-w9812g6khc1.pdf
footprint TSOP-II-54_22.2x10.16mm_P0.8mm
pins: 1 VDD (power), 2 DQ0 (io), 3 VDDQ (power), 4 DQ1 (io), 5 DQ2 (io), 6 VSSQ (power), 7 DQ3 (io), 8 DQ4 (io), 9 VDDQ hidden, 10 DQ5 (io), 11 DQ6 (io), 12 VSSQ hidden, 13 DQ7 (io), 14 VDD hidden, 15 LDQM (in), 16 ~{{WE}} (in), 17 ~{{CAS}} (in), 18 ~{{RAS}} (in), 19 ~{{CS}} (in), 20 BS0 (in), 21 BS1 (in), 22 A10/AP (in), 23 A0 (in), 24 A1 (in), 25 A2 (in), 26 A3 (in), 27 VDD hidden, 28 VSS (power), 29 A4 (in), 30 A5 (in), 31 A6 (in), 32 A7 (in), 33 A8 (in), 34 A9 (in), 35 A11 (in), 36 NC (in) hidden, 37 CKE (in), 38 CLK (in), 39 UDQM (in), 40 NC (in) hidden, 41 VSS hidden, 42 DQ8 (io), 43 VDDQ hidden, 44 DQ9 (io), 45 DQ10 (io), 46 VSSQ hidden, 47 DQ11 (io), 48 DQ12 (io), 49 VDDQ hidden, 50 DQ13 (io), 51 DQ14 (io), 52 VSSQ hidden, 53 DQ15 (io), 54 VSS hidden